# Altium schematic symbol library ECS-160-8-30B-CKM.SchLib: 1 symbol
Pins are listed as number, name and electrical type; pins without a type are passive.

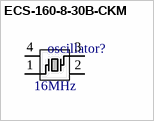
[diagram p0: symbol ECS-160-8-30B-CKM]

## ECS-160-8-30B-CKM
designator oscillator?, comment value 16MHz  (hidden comment: SMD_oscillator)
footprint ECS-160-8-30B-CKM
pins: 1, 2, 3, 4